# EAGLE library part VCNL4010-GS08 (library smd_other)
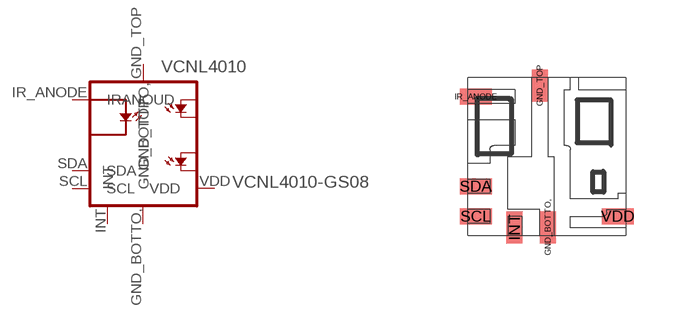
[diagram p1: symbol with the pads of VCNL4010-GS08; footprint VCNL4010-GS08]

Designator prefix -

## VCNL4010-GS08  [VCNL4010-GS08]
GND_BOTTO,  GND_BOTTTO,
GND_TOP  GND_TOP
INT  INT
IR_ANODE  IRANOUD
SCL  SCL
SDA  SDA
VDD  VDD

## Footprint VCNL4010-GS08 (pad centres in mm)
smd 0.4 x 0.805: GND_BOTTO, 2.01,-3.75; GND_TOP 1.81,-0.2; INT 1.18,-3.75
smd 0.805 x 0.4: IR_ANODE 0.21,-0.475; SCL 0.21,-3.475; SDA 0.21,-2.725; VDD 3.76,-3.475